# Altium schematic symbol library CD4051BPW.SchLib: 1 symbol
Pins are listed as number, name and electrical type; pins without a type are passive.

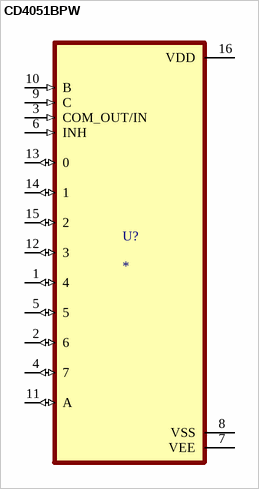
[diagram p0: symbol CD4051BPW]

## CD4051BPW
designator U?
MF: {'manufacturer': u'Texas Instruments'}; MP: CD4051BPW; Package: None; Value: *; Availability: Unavailable; Price: None
footprint SOP65P640X120-16N
pins: 1 4 (io), 2 6 (io), 3 COM_OUT/IN (in), 4 7 (io), 5 (io), 6 INH (in), 7 VEE (power), 8 VSS (power), 9 C (in), 10 B (in), 11 A (io), 12 3 (io), 13 0 (io), 14 1 (io), 15 2 (io), 16 VDD (power)